# Altium footprint library resistor.PcbLib: 49 footprints (part 1 of 4)
Each footprint in its own frame and in the unit in brackets; x right, y up, seen from the top. Pads: shape width x height; smd on the part's side, far side on the other; paste and mask are expansions set on the pad; w line width, h text height; cw(c..) or ccw(c..) is an arc to the next point about the centre after c.
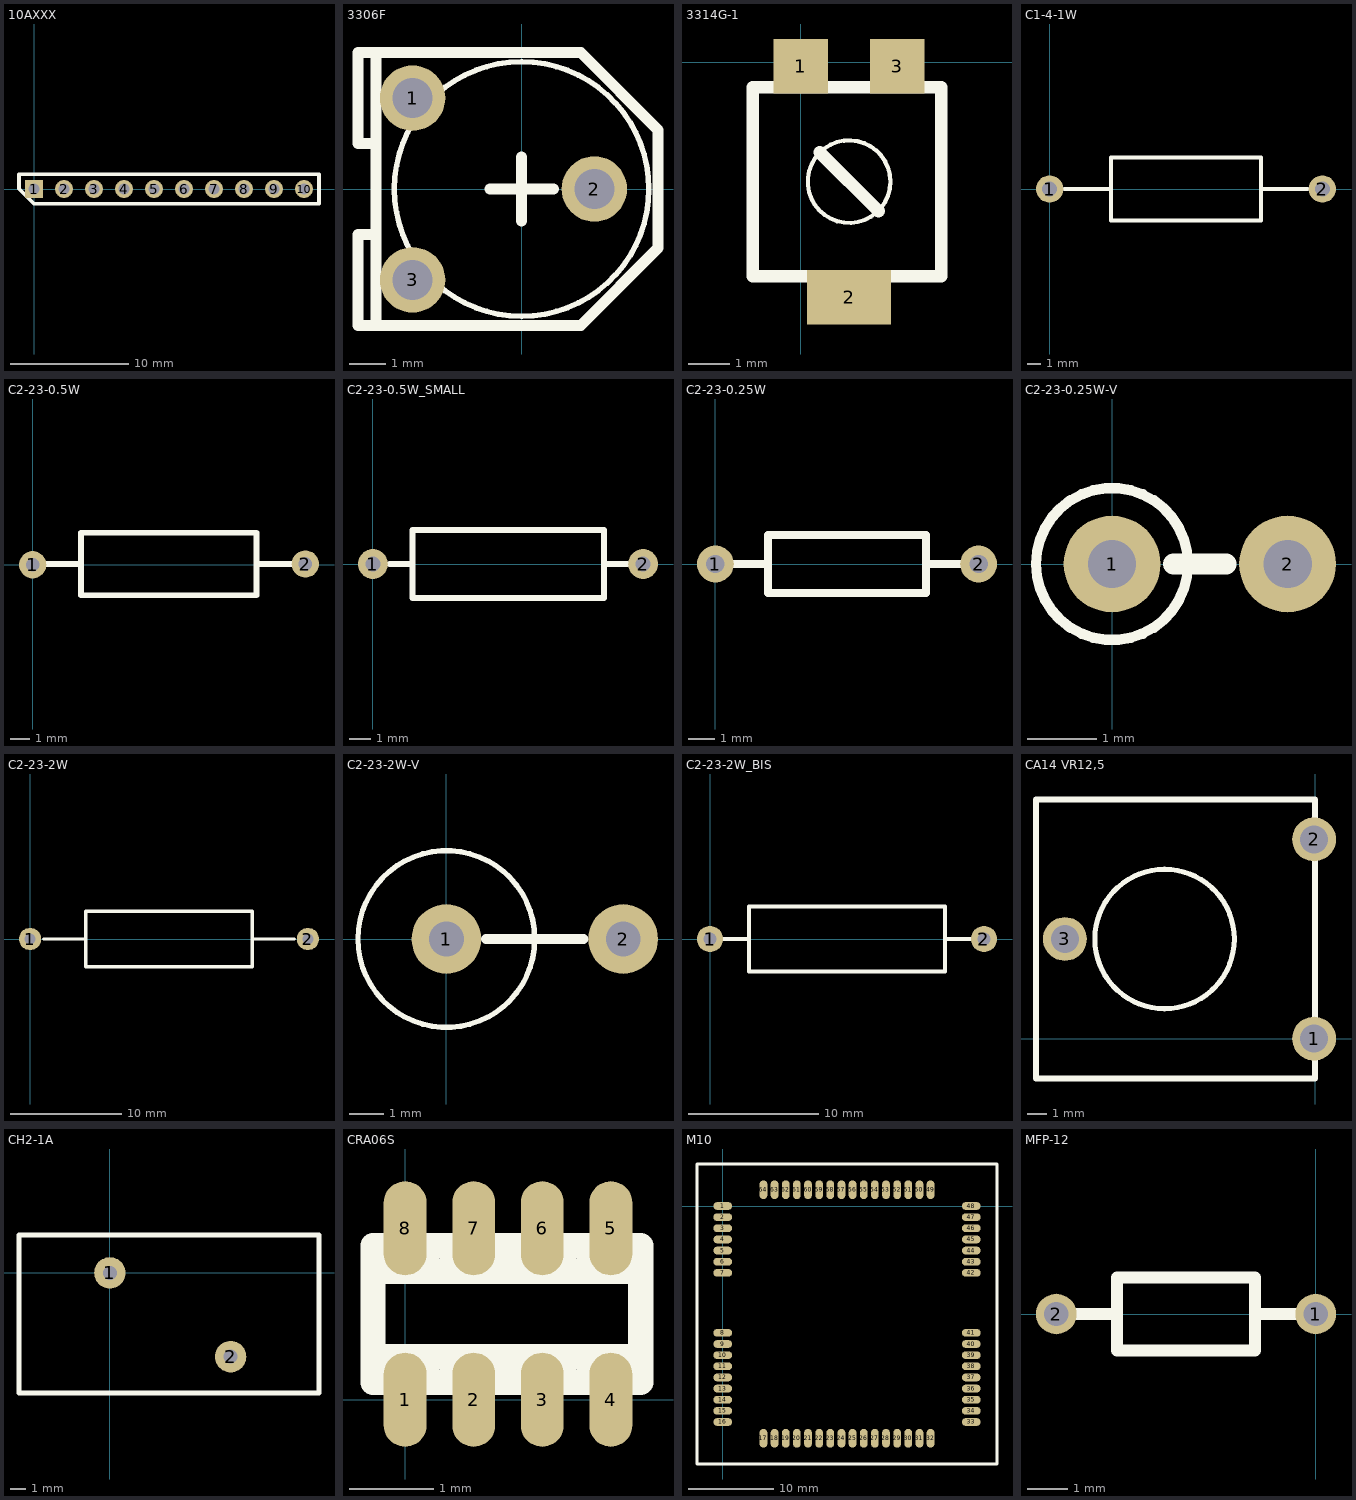
[diagram p0: the footprints below, top view; thin cyan lines are the x and y axes]

## 10AXXX [mil]
pads (10):
  rect 60x60 hole 38: 1(0,0)
  round 60 hole 38: 2(100,0) 3(200,0) 4(300,0) 5(400,0) 6(500,0) 7(600,0) 8(700,0) 9(800,0) 10(900,0)
Top Overlay:
  lines w11.81: -50,0.79 0,-49.21 950,-49.21 950,49.21 -50,49.21 -50,0.79

## 3306F [mm]
pads (3):
  round 1.8 hole 1.1: 1(-3,2.5) 2(2,0) 3(-3,-2.5)
Top Overlay:
  circle w0.15: c0,0 r3.5
  lines w0.3: -4,-3.75 -4,3.75 ; -4,-1.25 -4.5,-1.25 -4.5,-3.75 1.625,-3.75 3.75,-1.625 3.75,1.625 1.625,3.75 -4.5,3.75 -4.5,1.25 -4,1.25 ; -0.875,0 0.875,0 ; 0,-0.875 0,0.875

## 3314G-1 [mm]
pads (3):
  rect 1.3x1.3 smd: 1(0,-0.1) 3(2.3,-0.1)
  rect 2x1.3 smd: 2(1.15,-5.6)
Top Overlay:
  circle w0.1: c1.15,-2.85 r0.985
  lines w0.3: 0.45,-2.15 1.85,-3.55 ; -1.15,-5.1 -1.15,-0.6 3.35,-0.6 3.35,-5.1 -1.15,-5.1

## C1-4-1W [mm]
pads (2):
  round 2 hole 1.1: 1(0,0) 2(20,0)
Top Overlay:
  lines w0.3: 1.1,0 4.5,0 ; 15.5,0 18.9,0 ; 4.5,-2.3 4.5,2.3 15.5,2.3 15.5,-2.3 4.5,-2.3
3D body "User Library-Res80 1W SilCoat.step": height 5.52, standoff -1, extent -0.535,-2.25 20.535,2.25

## C2-23-0.5W [mm]
pads (2):
  round 1.4 hole 0.7: 1(0,0) 2(13.98,0.04)
Top Overlay:
  lines w0.3: 0.68,0.04 2.48,0.04 ; 11.48,0.04 13.28,0.04 ; 2.48,-1.56 11.48,-1.56 11.48,1.64 2.48,1.64 2.48,-1.56

## C2-23-0.5W_SMALL [mm]
pads (2):
  round 1.4 hole 0.7: 1(0,0) 2(12.7,0)
Top Overlay:
  lines w0.3: 0.8,0 1.86,0 ; 10.9,0 11.96,0 ; 1.86,-1.6 1.86,1.6 10.86,1.6 10.86,-1.6 1.86,-1.6

## C2-23-0.25W [mm]
pads (2):
  round 1.4 hole 0.7: 1(0,0) 2(10,0)
Top Overlay:
  lines w0.3: 0.7,0 2,0 ; 8,0 9.3,0 ; 2,-1.1 2,1.1 8,1.1 8,-1.1 2,-1.1
3D body "User Library-RESISTOR, 0_25 W, 0_4 IN LEAD PITCH.step": height 2.93, standoff -2.54, extent -0.385,-1.161 10.385,1.15

## C2-23-0.25W-V [mm]
pads (2):
  round 1.4 hole 0.7: 1(0,0) 2(2.54,0)
Top Overlay:
  circle w0.15: c0,0 r1.1
  lines w0.3: 0.889,0 1.651,0
3D body "User Library-Resistor 0_25w_2_54mm.step": height 9.9, standoff -1.5, extent -1.2,-1.2 2.84,1.2

## C2-23-2W [mm]
pads (2):
  round 2 hole 1: 1(0,0) 2(25,0)
Top Overlay:
  lines w0.3: 1.2,0 5,0 ; 20,0 23.8,0 ; 5,-2.5 5,2.5 20,2.5 20,-2.5 5,-2.5

## C2-23-2W-V [mm]
pads (2):
  round 2 hole 1: 1(0,0) 2(5.08,0)
Top Overlay:
  circle w0.15: c0,0 r2.54
  lines w0.3: 1.143,0 3.937,0
3D body "User Library-RESISTOR_2W.step": height 13.74, standoff -2, extent -1.754,-1.754 5.4,1.754

## C2-23-2W_BIS [mm]
pads (2):
  round 2 hole 1: 1(0,0) 2(21,0)
Top Overlay:
  lines w0.3: 0,0 3,0 ; 18,0 21,0 ; 3,-2.5 18,-2.5 18,2.5 3,2.5 3,-2.5

## CA14 VR12,5 [mm]
pads (3):
  round 2.2 hole 1.4: 1(-0.05,0) 2(-0.05,10) 3(-12.55,5)
Top Overlay:
  circle w0.254: c-7.55,5 r3.5
  lines w0.3: -14,-2 0,-2 0,12 -14,12 -14,-2

## CH2-1A [mm]
pads (2):
  round 2 hole 0.9: 1(0,0) 2(7.64,-5.3)
Top Overlay:
  lines w0.3: -5.76,-7.6 -5.76,2.4 13.24,2.4 13.24,-7.6 -5.76,-7.6

## CRA06S [mil]
pads (8):
  oval 20x44 smd: 1(0,0) 2(32,0) 3(64,0) 4(96,0) 5(96,80) 6(64,80) 7(32,80) 8(0,80)
Top Overlay:
  lines w11.81: -15,20 -15,60 ; -15,20 -10,20 -10,8 ; -15,20 -15,8 -10,8 ; -15,20 110,20 106,20 106,8 ; -15,60 -10,60 -10,72 ; -15,60 -15,72 -10,72 ; -15,60 110,60 106,60 106,72 ; -10,8 -4,14 4,14 10,8 ; -10,72 -4,66 4,66 10,72 ; 10,8 10,20 22,20 22,8 ; 10,8 22,8 ; 10,72 10,60 22,60 22,72 ; 10,72 22,72 ; 22,8 28,14 36,14 42,8 ; 22,72 28,66 36,66 42,72 ; 42,8 42,20 54,20 54,8 ; 42,8 54,8 ; 42,72 42,60 54,60 54,72 ; 42,72 54,72 ; 54,8 60,14 68,14 74,8 ; 54,72 60,66 68,66 74,72 ; 74,8 74,20 86,20 86,8 ; 74,8 86,8 ; 74,72 74,60 86,60 86,72 ; 74,72 86,72 ; 86,8 92,14 100,14 106,8 ; 86,72 92,66 100,66 106,72 ; 106,8 110,8 110,72 106,72

## M10 [mm]
pads (64):
  oval 2.2x0.9 smd: 1(0,0) 2(0,-1.3) 3(0,-2.6) 4(0,-3.9) 5(0,-5.2) 6(0,-6.5) 7(0,-7.8) 8(0,-14.8) 9(0,-16.1) 10(0,-17.4) 11(0,-18.7) 12(0,-20) 13(0,-21.3) 14(0,-22.6) 15(0,-23.9) 16(0,-25.2) 33(29,-25.2) 34(29,-23.9) 35(29,-22.6) 36(29,-21.3) 37(29,-20) 38(29,-18.7) 39(29,-17.4) 40(29,-16.1) 41(29,-14.8) 42(29,-7.8) 43(29,-6.5) 44(29,-5.2) 45(29,-3.9) 46(29,-2.6) 47(29,-1.3) 48(29,0)
  oval 0.9x2.2 smd: 17(4.75,-27.1) 18(6.05,-27.1) 19(7.35,-27.1) 20(8.65,-27.1) 21(9.95,-27.1) 22(11.25,-27.1) 23(12.55,-27.1) 24(13.85,-27.1) 25(15.15,-27.1) 26(16.45,-27.1) 27(17.75,-27.1) 28(19.05,-27.1) 29(20.35,-27.1) 30(21.65,-27.1) 31(22.95,-27.1) 32(24.25,-27.1) 49(24.25,1.9) 50(22.95,1.9) 51(21.65,1.9) 52(20.35,1.9) 53(19.05,1.9) 54(17.75,1.9) 55(16.45,1.9) 56(15.15,1.9) 57(13.85,1.9) 58(12.55,1.9) 59(11.25,1.9) 60(9.95,1.9) 61(8.65,1.9) 62(7.35,1.9) 63(6.05,1.9) 64(4.75,1.9)
Top Overlay:
  lines w0.3: -3,-30.1 32,-30.1 32,4.9 -3,4.9 -3,-30.1
Top Solder:
  circle w0.1: c24.4,-7.1 r2.5

## MFP-12 [mm]
pads (2):
  round 1 hole 0.6: 1(0,0) 2(-6.4,0)
Top Overlay:
  lines w0.3: -5.9,0 -4.9,0 ; -1.5,0 -0.5,0 ; -4.9,-0.9 -1.5,-0.9 -1.5,0.9 -4.9,0.9 -4.9,-0.9